# Altium schematic symbol library TC2050.SchLib: 1 symbol
Pins are listed as number, name and electrical type; pins without a type are passive.

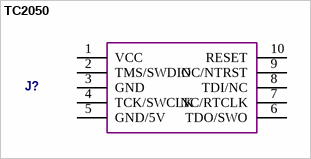
[diagram p0: symbol TC2050]

## TC2050
designator J?  (value not drawn)  (no BOM)
pins: 1 VCC, 2 TMS/SWDIO, 3 GND, 4 TCK/SWCLK, 5 GND/5V, 6 TDO/SWO, 7 NC/RTCLK, 8 TDI/NC, 9 NC/NTRST, 10 RESET